# EAGLE library part ISL91110IR (library Eagle_CAD_parts)
The ISL91110IR is a high-current buck-boost switching regulator for systems using new battery chemistries. It uses Intersil’s proprietary buck-boost algorithm to maintain voltage regulation while providing excellent efficiency and very low output voltage ripple when the input voltage is close to the output voltage. The ISL91110IR is capable of delivering at least 2A continuous output current (VOUT = 3.3V) over a battery voltage range of 2.5V to 4.35V. This maximizes the energy utilization of advanced single-cell Li-ion battery chemistries that have significant capacity left at voltages below the system voltage. Its fully synchronous low ON-resistance 4-switch architecture and a low quiescent current of only 35μA optimize efficiency under all load conditions. The ISL91110IR supports standalone applications with a fixed 3.3V or 3.5V output voltage or adjustable output voltage with an external resistor divider. Output voltages as low as 1V or as high as 5.2V are supported. The ISL91110IR requires only a single inductor and very few external components. Power supply solution size is minimized by its 2.5MHz switching frequency, allowing small size external components.
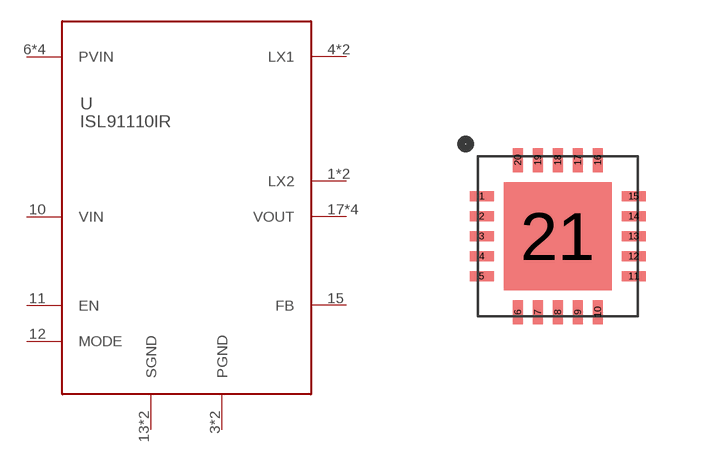
[diagram p102: symbol with the pads of 20-QFN-4X4; footprint 20-QFN-4X4]

Designator prefix U

## ISL91110IRNZ-T7A (DIGIKEY_PART_NUMBER: ISL91110IRNZ-T7A-ND; MANUFACTURER_PART_NUMBER: ISL91110IRNZ-T7A; VOUT: 3.3V (Fixed))  [20-QFN-4X4]
1  LX2
2  LX2
3  PGND
4  LX1
5  LX1
6  PVIN
7  PVIN
8  PVIN
9  PVIN
10  VIN
11  EN
12  MODE
13  SGND
14  SGND
15  FB
17  VOUT
18  VOUT
19  VOUT
20  VOUT
21  PGND

## ISL91110IRAZ-T7A (DIGIKEY_PART_NUMBER: 20-ISL91110IRAZ-T7ACT-ND; MANUFACTURER_PART_NUMBER: ISL91110IRAZ-T7A; VOUT: ADJ)  [20-QFN-4X4]
Pads as for 20-QFN-4X4

## Footprint 20-QFN-4X4 (pad centres in mm)
smd 0.6 x 0.25: 1 -1.9,1; 2 -1.9,0.5; 3 -1.9,0; 4 -1.9,-0.5; 5 -1.9,-1; 11 1.9,-1; 12 1.9,-0.5; 13 1.9,0; 14 1.9,0.5; 15 1.9,1
smd 0.25 x 0.6: 6 -1,-1.9; 7 -0.5,-1.9; 8 0,-1.9; 9 0.5,-1.9; 10 1,-1.9; 16 1,1.9; 17 0.5,1.9; 18 0,1.9; 19 -0.5,1.9; 20 -1,1.9
smd 2.7 x 2.7: 21 0,0